# EAGLE library part MDBT50_52833 (library MDBT50_52833_210706)
Raytac Corporation Part Number: MDBT50-512K / MDBT50-P512K Bluetooth Low Energy Module based on Noridc nRF52833 Size: 13.2x8.4mm Source: Raytac datasheet
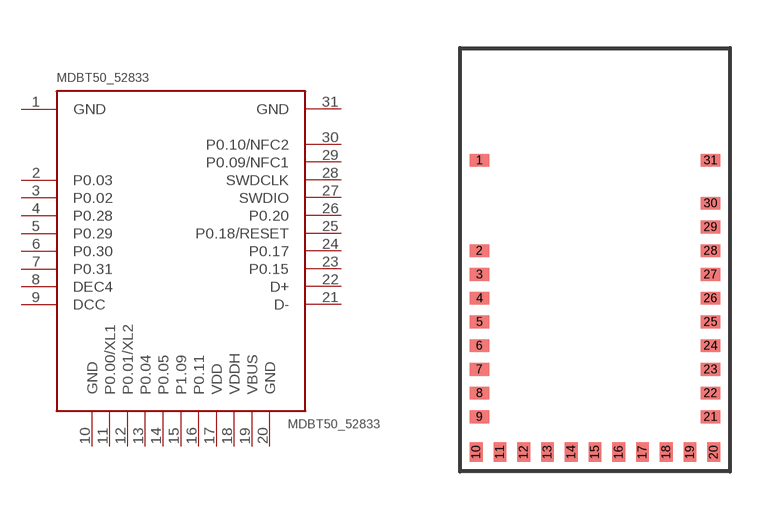
[diagram p0: symbol with the pads of MDBT50; footprint MDBT50]

Designator prefix MDBT50_52833

## MDBT50_52833  [MDBT50]
1  GND
2  P0.03
3  P0.02
4  P0.28
5  P0.29
6  P0.30
7  P0.31
8  DEC4
9  DCC
10  GND
11  P0.00/XL1
12  P0.01/XL2
13  P0.04
14  P0.05
15  P1.09
16  P0.11
17  VDD
18  VDDH
19  VBUS
20  GND
21  D-
22  D+
23  P0.15
24  P0.17
25  P0.18/RESET
26  P0.20
27  SWDIO
28  SWDCLK
29  P0.09/NFC1
30  P0.10/NFC2
31  GND

## Footprint MDBT50 (pad centres in mm)
Raytac Corporation Part Number: (nRF52820) MDBT50-256R / MDBT50-P256R (nRF52833) MDBT50-512K / MDBT50-P512K Bluetooth Low Energy Module based on Noridc nRF52820 / nRF52833 Size: 13.2x8.4mm Source: Raytac datasheet
smd 0.6 x 0.4: 1 -3.6,3.1; 2 -3.6,0.28; 3 -3.6,-0.46; 4 -3.6,-1.2; 5 -3.6,-1.94; 6 -3.6,-2.68; 7 -3.6,-3.42; 8 -3.6,-4.16; 9 -3.6,-4.9; 21 3.6,-4.9; 22 3.6,-4.16; 23 3.6,-3.42; 24 3.6,-2.68; 25 3.6,-1.94; 26 3.6,-1.2; 27 3.6,-0.46; 28 3.6,0.28; 29 3.6,1.02; 30 3.6,1.76; 31 3.6,3.1
smd 0.4 x 0.6: 10 -3.7,-6; 11 -2.96,-6; 12 -2.22,-6; 13 -1.48,-6; 14 -0.74,-6; 15 0,-6; 16 0.74,-6; 17 1.48,-6; 18 2.22,-6; 19 2.96,-6; 20 3.7,-6